# Altium footprint library PcbLib1.PcbLib: 2 footprints
Each footprint in its own frame and in the unit in brackets; x right, y up, seen from the top. Pads: shape width x height; smd on the part's side, far side on the other; paste and mask are expansions set on the pad; w line width, h text height; cw(c..) or ccw(c..) is an arc to the next point about the centre after c.
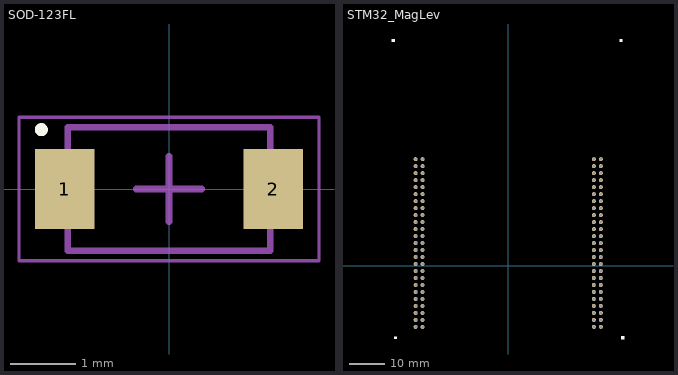
[diagram p0: the footprints below, top view; thin cyan lines are the x and y axes]

## SOD-123FL [mil] "SODFL, 2-Leads, Body 1,65x3,70mm, IPC Medium Density"
height 53.15
pads (2):
  rect 36x48 smd: 1(-62.99,0) 2(62.99,0)
Top Overlay:
  circle w3.94: c-77.06,35.81 r1.97
Mechanical 13:
  lines w3.94: -61.02,-37.4 -61.02,37.4 61.02,37.4 61.02,-37.4 -61.02,-37.4
Mechanical 15:
  lines w1.97: -90.55,-43.31 -90.55,43.31 90.55,43.31 90.55,-43.31 -90.55,-43.31
  lines w3.94: -19.68,0 19.69,0 ; 0,-19.68 0,19.68
3D body "SOD-123FL.step": height 53.15, standoff 0, extent -72.83,-37.4 72.83,37.4

## STM32_MagLev [mil]
pads (100):
  round 45 hole 30: 1(-1043.31,1200.79) 2(-964.57,1200.79) 3(-1043.31,1122.05) 4(-964.57,1122.05) 5(-1043.31,1043.31) 6(-964.57,1043.31) 7(-1043.31,964.57) 8(-964.57,964.57) 9(-1043.31,885.83) 10(-964.57,885.83) 11(-1043.31,807.09) 12(-964.57,807.09) 13(-1043.31,728.35) 14(-964.57,728.35) 15(-1043.31,649.61) 16(-964.57,649.61) 17(-1043.31,570.87) 18(-964.57,570.87) 19(-1043.31,492.13) 20(-964.57,492.13) 21(-1043.31,413.39) 22(-964.57,413.39) 23(-1043.31,334.65) 24(-964.57,334.65) 25(-1043.31,255.91) 26(-964.57,255.91) 27(-1043.31,177.17) 28(-964.57,177.17) 29(-1043.31,98.43) 30(-964.57,98.43) 31(-1043.31,19.68) 32(-964.57,19.68) 33(-1043.31,-59.06) 34(-964.57,-59.06) 35(-1043.31,-137.8) 36(-964.57,-137.8) 37(-1043.31,-216.54) 38(-964.57,-216.54) 39(-1043.31,-295.28) 40(-964.57,-295.28) 41(-1043.31,-374.02) 42(-964.57,-374.02) 43(-1043.31,-452.76) 44(-964.57,-452.76) 45(-1043.31,-531.5) 46(-964.57,-531.5) 47(-1043.31,-610.24) 48(-964.57,-610.24) 49(-1043.31,-688.98) 50(-964.57,-688.98) 51(964.57,1200.79) 52(1043.31,1200.79) 53(964.57,1122.05) 54(1043.31,1122.05) 55(964.57,1043.31) 56(1043.31,1043.31) 57(964.57,964.57) 58(1043.31,964.57) 59(964.57,885.83) 60(1043.31,885.83) 61(964.57,807.09) 62(1043.31,807.09) 63(964.57,728.35) 64(1043.31,728.35) 65(964.57,649.61) 66(1043.31,649.61) 67(964.57,570.87) 68(1043.31,570.87) 69(964.57,492.13) 70(1043.31,492.13) 71(964.57,413.39) 72(1043.31,413.39) 73(964.57,334.65) 74(1043.31,334.65) 75(964.57,255.91) 76(1043.31,255.91) 77(964.57,177.17) 78(1043.31,177.17) 79(964.57,98.43) 80(1043.31,98.43) 81(964.57,19.68) 82(1043.31,19.68) 83(964.57,-59.06) 84(1043.31,-59.06) 85(964.57,-137.8) 86(1043.31,-137.8) 87(964.57,-216.54) 88(1043.31,-216.54) 89(964.57,-295.28) 90(1043.31,-295.28) 91(964.57,-374.02) 92(1043.31,-374.02) 93(964.57,-452.76) 94(1043.31,-452.76) 95(964.57,-531.5) 96(1043.31,-531.5) 97(964.57,-610.24) 98(1043.31,-610.24) 99(964.57,-688.98) 100(1043.31,-688.98)
Top Overlay:
  rectangle: -1285,-825 -1255,-795
  region: 1275,-795 1290,-795 1305,-795 1305,-810 1305,-825 1275,-825 1275,-810
  region: -1310,2555 -1295,2555 -1280,2555 -1280,2540 -1280,2525 -1310,2525 -1310,2540
  region: 1255,2555 1270,2555 1285,2555 1285,2540 1285,2525 1255,2525 1255,2540